# Altium schematic symbol library OPTO.SchLib: 17 symbols
Pins are listed as number, name and electrical type; pins without a type are passive.

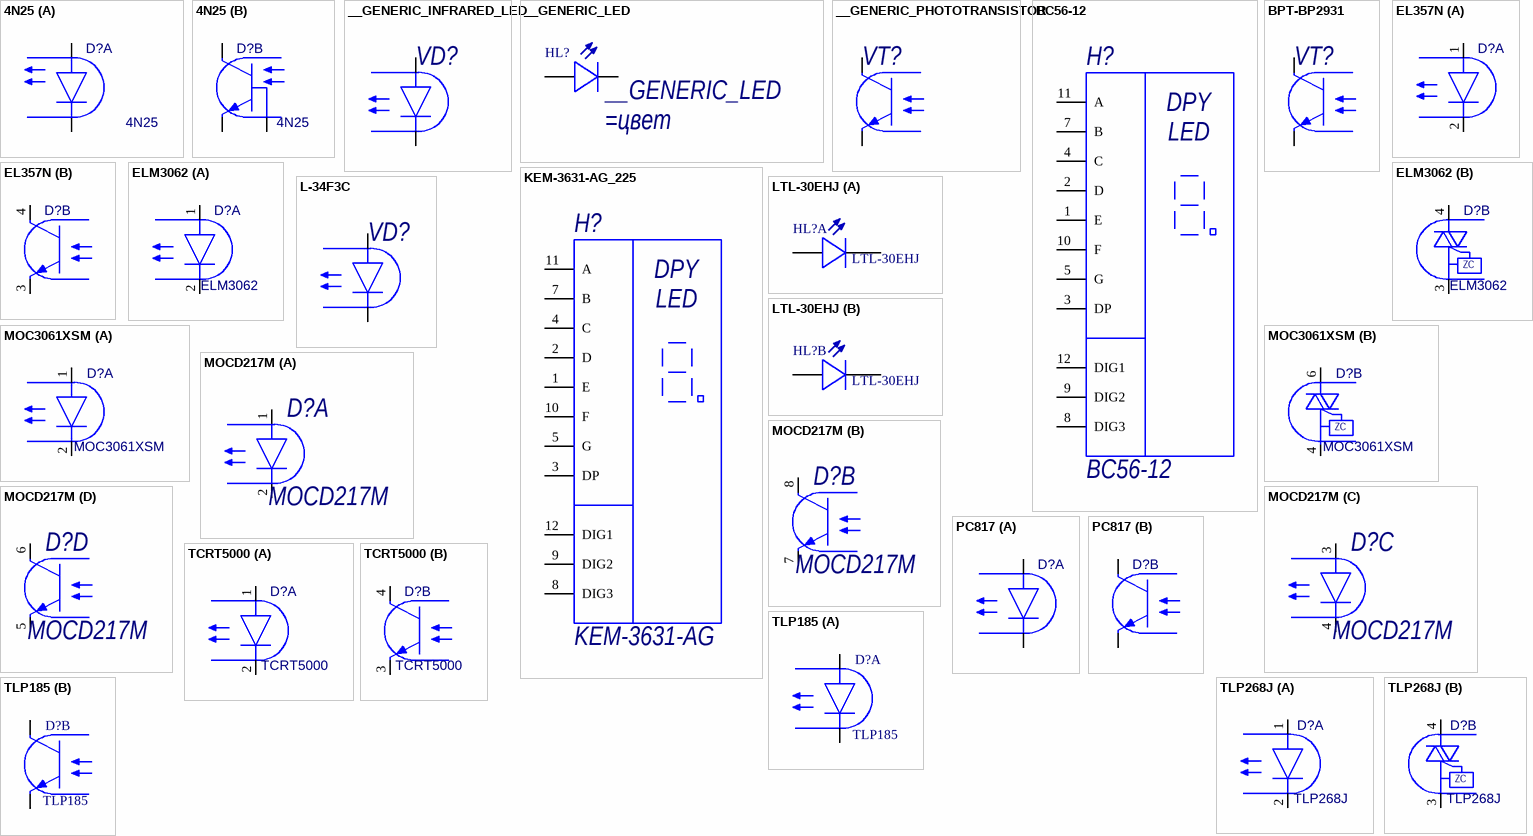
[diagram p0: symbols 4N25 to TLP268J]

## 4N25
designator D?
Оптрон с транзисторным выходом; ComponentDescription: =ComponentType+', '+Comment+', '+Package; ComponentType: Оптрон с транзисторным выходом
footprint DIP6-SMD
part A pins: 1 A, 2 K
part B pins: 4 E, 5 C, 6 B

## __GENERIC_INFRARED_LED
designator VD?, comment __GENERIC_PHOTODIODE  (value not drawn)
Светодиод инфракрасный; ComponentDescription: =ComponentType+', '+Comment+', '+Package; ComponentType: Светодиод инфракрасный
footprint 3MM SMD
pins: 1 K, 2 A

## __GENERIC_LED
designator HL?
Светодиод; ComponentDescription: =ComponentType+', '+Color+', '+Comment+', '+Package; ComponentType: Светодиод; Color: =цвет
footprint LED-3mm; pin to pad A>1 K>2
footprint LED-5mm; pin to pad A>1 K>2
footprint LED-0805 (Chip Led, 2-Leads, Body 2,00x1,25mm, IPC Medium Density); pin to pad A>1 K>2
footprint LED-0805B (Chip Led, 2-Leads, Body 2,00x1,25mm, IPC Medium Density); pin to pad A>1 K>2
footprint LED-0805G (Chip Led, 2-Leads, Body 2,00x1,25mm, IPC Medium Density); pin to pad A>1 K>2
footprint LED-0805R (Chip Led, 2-Leads, Body 2,00x1,25mm, IPC Medium Density); pin to pad A>1 K>2
footprint LED-0805O (Chip Led, 2-Leads, Body 2,00x1,25mm, IPC Medium Density); pin to pad A>1 K>2
footprint LED-0805Y (Chip Led, 2-Leads, Body 2,00x1,25mm, IPC Medium Density); pin to pad A>1 K>2
footprint LED-0603G; pin to pad A>1 K>2
footprint LED-0603R; pin to pad A>1 K>2
footprint LED5 GREEN (Светодиод: выводной круглый, ф 5x8.6); pin to pad A>1 K>2
footprint LED5 RED (Светодиод: выводной круглый, ф 5x8.6); pin to pad A>1 K>2
footprint 3MM SMD; pin to pad A>1 K>2
footprint LED-3MM_R; pin to pad A>1 K>2
footprint LED-3MM_G; pin to pad A>1 K>2
pins: A, K

## __GENERIC_PHOTOTRANSISTOR
designator VT?  (value not drawn)
Фототранзистор; ComponentDescription: =ComponentType+', '+Comment+', '+Package; ComponentType: Фототранзистор
footprint 3MM SMD
pins: 1 E, 2 C

## BC56-12
designator H?
Семисегментный индикатор; ComponentDescription: Семисегментный индикатор, тип подключения, цвет, BC56-12; ContactType: тип подключения; Color: цвет; ComponentType: Семисегментный индикатор
footprint BC56-12
pins: 1 E, 2 D, 3 DP, 4 C, 5 G, 7 B, 8 DIG3, 9 DIG2, 10 F, 11 A, 12 DIG1
text: DPY; LED

## BPT-BP2931
designator VT?  (value not drawn)
Фототранзистор; ComponentDescription: =ComponentType+', '+Comment+', '+Package; ComponentType: Фототранзистор
footprint 3MM SMD
pins: 1 E, 2 C

## EL357N
designator D?  (value not drawn)
Оптрон с транзисторным выходом; ComponentDescription: =ComponentType+', '+Comment+', '+Package; ComponentType: Оптрон с транзисторным выходом
footprint SOP-4
part A pins: 1 A, 2 K
part B pins: 3 E, 4 C

## ELM3062
designator D?
Оптрон с симисторным выходом (ДПН); ComponentDescription: =ComponentType+', '+Comment+', '+Package; ComponentType: Оптрон с симисторным выходом (ДПН)
footprint SOP-4
part A pins: 1 A, 2 K
part B pins: 3 A2, 4 A1
part B text: ZC

## KEM-3631-AG_225
designator H?, comment KEM-3631-AG
Семисегментный индикатор; ComponentDescription: Семисегментный индикатор, тип подключения, цвет, KEM-3631-AG; ContactType: тип подключения; Color: цвет; ComponentType: Семисегментный индикатор
footprint 3631-G
pins: 1 E, 2 D, 3 DP, 4 C, 5 G, 7 B, 8 DIG3, 9 DIG2, 10 F, 11 A, 12 DIG1
text: DPY; LED

## L-34F3C
designator VD?  (value not drawn)
Светодиод инфракрасный; ComponentDescription: =ComponentType+', '+Comment+', '+Package; ComponentType: Светодиод инфракрасный
footprint 3MM SMD
pins: 1 K, 2 A

## LTL-30EHJ
designator HL?
Светодиод двухцветный; Color: =цвет; ComponentDescription: =ComponentType+', '+Color+', '+Comment+', '+Package; ComponentType: Светодиод двухцветный
footprint LED-3MM-2COLOR; pin to pad A1>1 A2>3 K>2
part A pins: A1, K
part B pins: A2, K

## MOC3061XSM
designator D?
Оптрон с симисторным выходом (ДПН); ComponentDescription: =ComponentType+', '+Comment+', '+Package; ComponentType: Оптрон с симисторным выходом (ДПН)
footprint DIP6-SMD
part A pins: 1 A, 2 K
part B pins: 4 E, 6 C
part B text: ZC

## MOCD217M
designator D?
Оптрон с транзисторным выходом, двухканальный; ComponentDescription: =ComponentType+', '+Comment+', '+Package; ComponentType: Оптрон с транзисторным выходом, двухканальный
footprint SO-8 Tall (SOIC, 8-Leads, Body 4,90x3,90mm, Pitch 1,27mm, IPC Medium Density)
part A pins: 1 A, 2 K
part B pins: 7 E, 8 C
part C pins: 3 A, 4 K
part D pins: 5 E, 6 C

## PC817
designator D?  (value not drawn)
Оптрон с транзисторным выходом; ComponentDescription: =ComponentType+', '+Comment+', '+Package; ComponentType: Оптрон с транзисторным выходом
footprint DIP4-SMD
part A pins: 1 A, 2 K
part B pins: 3 E, 4 C

## TCRT5000
designator D?
Оптрон с транзисторным выходом излучающий; ComponentDescription: Оптрон с транзисторным выходом излучающий, TCRT5000; ComponentType: Оптрон с транзисторным выходом излучающий
footprint TCRT5000
part A pins: 1 A, 2 K
part B pins: 3 E, 4 C

## TLP185
designator D?
Оптрон с транзисторным выходом; ComponentDescription: =ComponentType+', '+Comment+', '+Package; ComponentType: Оптрон с транзисторным выходом
footprint SOP-4
part A pins: 1 A, 2 K
part B pins: 3 E, 4 C

## TLP268J
designator D?
Оптрон с симисторным выходом (ДПН); ComponentDescription: =ComponentType+', '+Comment+', '+Package; ComponentType: Оптрон с симисторным выходом (ДПН)
footprint SOP-4
part A pins: 1 A, 2 K
part B pins: 3 A2, 4 A1
part B text: ZC